# Altium footprint library ee_453_Schulz.PcbLib: 73 footprints (part 5 of 5)
Each footprint in its own frame and in the unit in brackets; x right, y up, seen from the top. Pads: shape width x height; smd on the part's side, far side on the other; paste and mask are expansions set on the pad; w line width, h text height; cw(c..) or ccw(c..) is an arc to the next point about the centre after c.
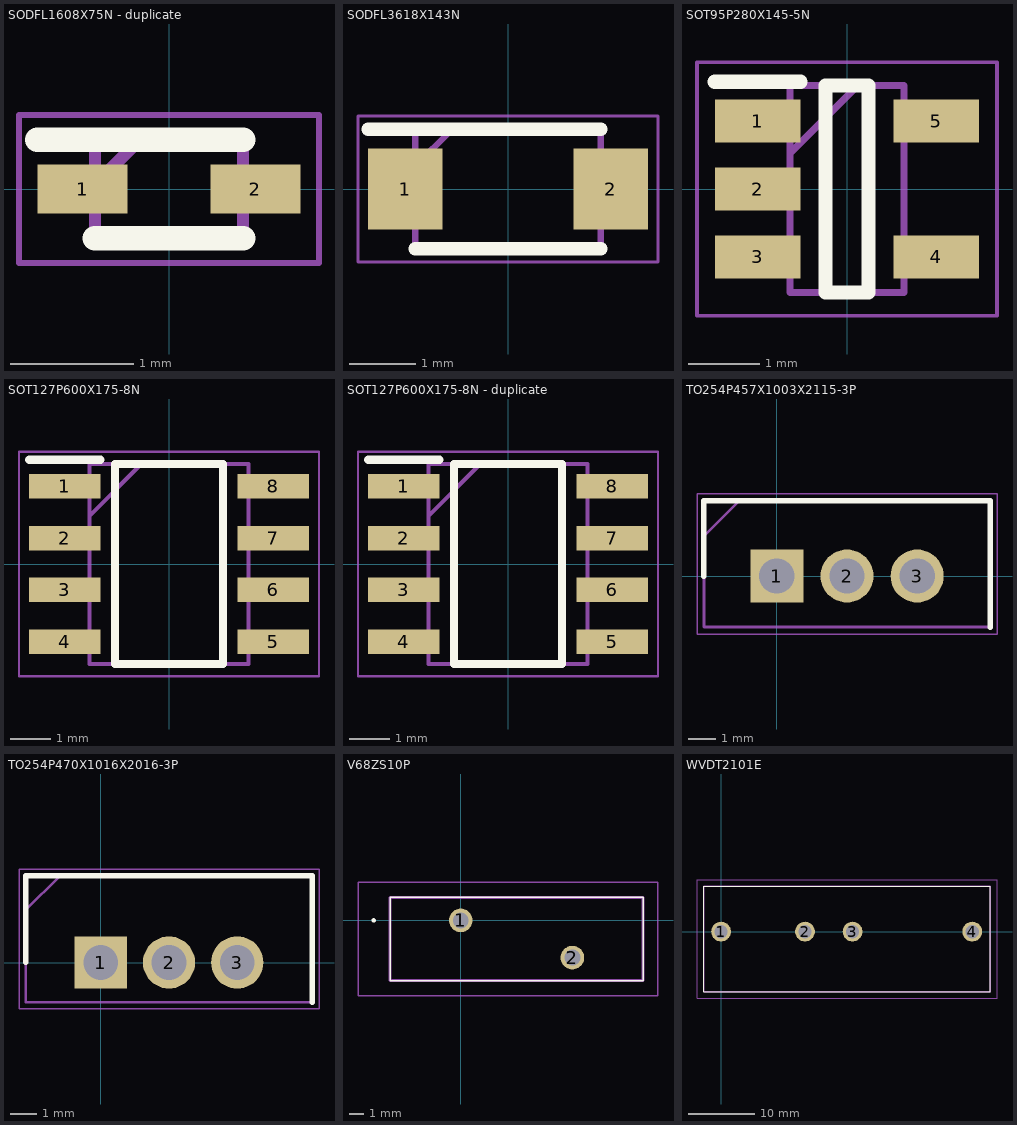
[diagram p4: the footprints below, top view; thin cyan lines are the x and y axes]

## SODFL1608X75N - duplicate [mm]
pads (2):
  rect 0.73x0.4 smd: 1(-0.7,0) 2(0.7,0)
Top Overlay:
  lines w0.2: -1.065,0.4 0.6,0.4 ; -0.6,-0.4 0.6,-0.4
Mechanical 13:
  lines w0.1: -0.6,0.035 -0.235,0.4 ; -0.6,-0.4 0.6,-0.4 0.6,0.4 -0.6,0.4 -0.6,-0.4
Mechanical 15:
  lines w0.05: -1.215,-0.6 1.215,-0.6 1.215,0.6 -1.215,0.6 -1.215,-0.6
3D body "BZX584C3V3-G3-08.stp": height 0.75, standoff 0, extent -0.8,-0.4 0.8,0.4

## SODFL3618X143N [mm]
pads (2):
  rect 1.12x1.22 smd: 1(-1.55,0) 2(1.55,0)
Top Overlay:
  lines w0.2: -2.11,0.9 1.4,0.9 ; -1.4,-0.9 1.4,-0.9
Mechanical 13:
  lines w0.1: -1.4,0.34 -0.84,0.9 ; -1.4,-0.9 -1.4,0.9 1.4,0.9 1.4,-0.9 -1.4,-0.9
Mechanical 15:
  lines w0.05: -2.26,-1.1 -2.26,1.1 2.26,1.1 2.26,-1.1 -2.26,-1.1
3D body "S310FA.stp": height 1.43, standoff 0, extent -1.8,-0.9 1.8,0.9

## SOT95P280X145-5N [mm]
pads (5):
  rect 1.2x0.6 smd: 1(-1.25,0.95) 2(-1.25,0) 3(-1.25,-0.95) 4(1.25,-0.95) 5(1.25,0.95)
Top Overlay:
  lines w0.2: -1.85,1.5 -0.65,1.5 ; -0.3,-1.45 0.3,-1.45 0.3,1.45 -0.3,1.45 -0.3,-1.45
Mechanical 13:
  lines w0.1: -0.8,0.5 0.15,1.45 ; -0.8,-1.45 0.8,-1.45 0.8,1.45 -0.8,1.45 -0.8,-1.45
Mechanical 15:
  lines w0.05: -2.1,-1.775 2.1,-1.775 2.1,1.775 -2.1,1.775 -2.1,-1.775
3D body "INA194AIDBVR.stp": height 1.45, standoff 0, extent -1.4,-1.45 1.4,1.45

## SOT127P600X175-8N [mm]
pads (8):
  rect 1.75x0.6 smd: 1(-2.55,1.905) 2(-2.55,0.635) 3(-2.55,-0.635) 4(-2.55,-1.905) 5(2.55,-1.905) 6(2.55,-0.635) 7(2.55,0.635) 8(2.55,1.905)
Top Overlay:
  lines w0.2: -3.425,2.555 -1.675,2.555 ; -1.325,-2.45 -1.325,2.45 1.325,2.45 1.325,-2.45 -1.325,-2.45
Mechanical 13:
  lines w0.1: -1.95,1.18 -0.68,2.45 ; -1.95,-2.45 -1.95,2.45 1.95,2.45 1.95,-2.45 -1.95,-2.45
Mechanical 15:
  lines w0.05: -3.675,-2.75 -3.675,2.75 3.675,2.75 3.675,-2.75 -3.675,-2.75
3D body "ACS725LLCTR-20AB-T.stp": height 1.75, standoff 0, extent -3,-2.45 3,2.45

## SOT127P600X175-8N - duplicate [mm]
pads (8):
  rect 1.75x0.6 smd: 1(-2.55,1.905) 2(-2.55,0.635) 3(-2.55,-0.635) 4(-2.55,-1.905) 5(2.55,-1.905) 6(2.55,-0.635) 7(2.55,0.635) 8(2.55,1.905)
Top Overlay:
  lines w0.2: -3.425,2.555 -1.675,2.555 ; -1.325,-2.45 -1.325,2.45 1.325,2.45 1.325,-2.45 -1.325,-2.45
Mechanical 13:
  lines w0.1: -1.95,1.18 -0.68,2.45 ; -1.95,-2.45 -1.95,2.45 1.95,2.45 1.95,-2.45 -1.95,-2.45
Mechanical 15:
  lines w0.05: -3.675,-2.75 -3.675,2.75 3.675,2.75 3.675,-2.75 -3.675,-2.75
3D body "ACS725LLCTR-20AB-T.stp": height 1.75, standoff 0, extent -3,-2.45 3,2.45

## TO254P457X1003X2115-3P [mm]
pads (3):
  rect 1.92x1.92 hole 1.28: 1(0,0)
  round 1.92 hole 1.28: 2(2.54,0) 3(5.08,0)
Top Overlay:
  lines w0.2: -2.64,0 -2.64,2.72 7.72,2.72 7.72,-1.85
Mechanical 13:
  lines w0.1: -2.64,1.45 -1.37,2.72 ; -2.64,-1.85 7.72,-1.85 7.72,2.72 -2.64,2.72 -2.64,-1.85
Mechanical 15:
  lines w0.05: -2.89,-2.1 7.97,-2.1 7.97,2.97 -2.89,2.97 -2.89,-2.1
3D body "IPP023N10N5.stp": height 20.18, standoff -17.96, extent -2.475,-1.85 7.555,2.72

## TO254P470X1016X2016-3P [mm]
pads (3):
  rect 1.95x1.95 hole 1.3: 1(0,0)
  round 1.95 hole 1.3: 2(2.54,0) 3(5.08,0)
Top Overlay:
  lines w0.2: -2.795,0 -2.795,3.225 7.875,3.225 7.875,-1.475
Mechanical 13:
  lines w0.1: -2.795,1.955 -1.525,3.225 ; -2.795,-1.475 7.875,-1.475 7.875,3.225 -2.795,3.225 -2.795,-1.475
Mechanical 15:
  lines w0.05: -3.045,-1.725 8.125,-1.725 8.125,3.475 -3.045,3.475 -3.045,-1.725
3D body "CSD19535KCS.stp": height 19.21, standoff -17.63, extent -2.54,-1.475 7.62,3.225

## V68ZS10P [mm]
pads (2):
  round 1.59 hole 1.06: 1(0,0) 2(7.5,-2.5)
Top Overlay:
  lines w0.1: -4.75,-4.05 12.25,-4.05 12.25,1.55 -4.75,1.55 -4.75,-4.05
  lines w0.2: -5.9,0 ccw(c-5.85,0) -5.8,0 ; -5.9,0 cw(c-5.85,0) -5.8,0 ; -5.9,0 ccw(c-5.85,0) -5.8,0
Mechanical 13:
  lines w0.2: -4.75,-4.05 12.25,-4.05 12.25,1.55 -4.75,1.55 -4.75,-4.05
Mechanical 15:
  lines w0.1: -6.9,-5.05 13.25,-5.05 13.25,2.55 -6.9,2.55 -6.9,-5.05
3D body "V68ZS10P.stp": height 20.1, standoff -5, extent -4.75,-4.05 12.25,1.55

## WVDT2101E [mm]
pads (4):
  round 3 hole 2: 1(0,0) 2(12.7,0) 3(19.9,0) 4(38,0)
Top Overlay:
  lines w0.1: -2.65,-9.112 40.75,-9.112 40.75,6.888 -2.65,6.888 -2.65,-9.112
Mechanical 13:
  lines w0.2: -2.65,-9.112 40.75,-9.112 40.75,6.888 -2.65,6.888 -2.65,-9.112
Mechanical 15:
  lines w0.1: -3.65,-10.112 41.75,-10.112 41.75,7.888 -3.65,7.888 -3.65,-10.112
3D body "WV-DT2-101E.stp": height 32.4, standoff -5, extent -2.65,-9.112 40.75,6.888